# EAGLE library part MOTOR_HEADER (library quadcopter_comp)
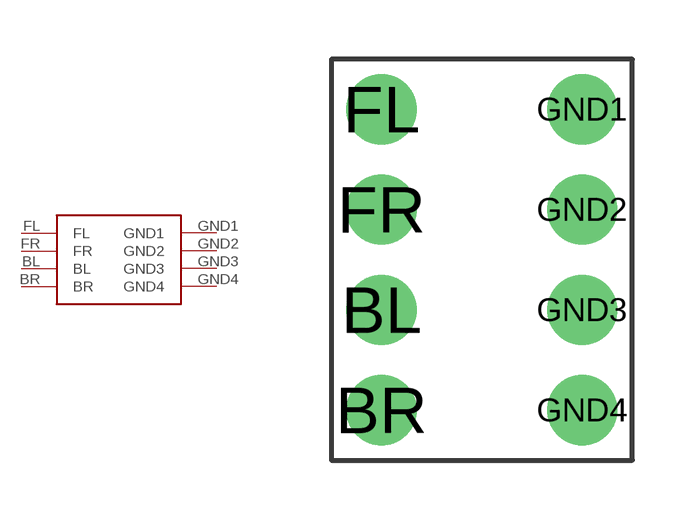
[diagram p4: symbol with the pads of MOTOR_HEADER; footprint MOTOR_HEADER]

Designator prefix -

## MOTOR_HEADER  [MOTOR_HEADER]
BL  BL
BR  BR
FL  FL
FR  FR
GND1  GND1
GND2  GND2
GND3  GND3
GND4  GND4

## Footprint MOTOR_HEADER (pad centres in mm)
drill 0.8 pad 1.778: BL -2.54,-1.27; BR -2.54,-3.81; FL -2.54,3.81; FR -2.54,1.27; GND1 2.54,3.81; GND2 2.54,1.27; GND3 2.54,-1.27; GND4 2.54,-3.81